# Altium integrated library lib_actives.IntLib: 19 symbols
Pins are listed as number, name and electrical type; pins without a type are passive.

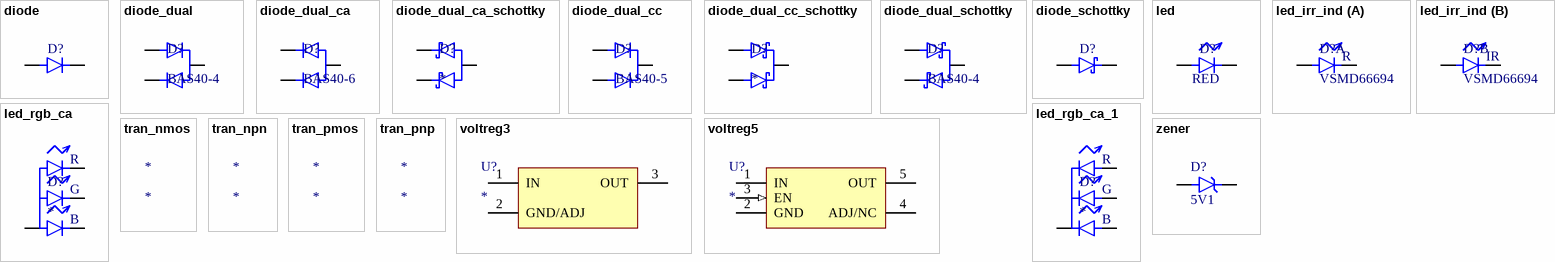
[diagram p0: symbols diode to zener]

## diode
designator D?  (value not drawn)
Diode
footprint CAPCP1005X06N (Chip Capacitor, 2-Leads, Body 1.00x0.50mm, IPC Medium Density); pin to pad A>1 C>2
footprint CAPCP1608X08N (Chip Capacitor, 2-Leads, Body 1.60x0.80mm, IPC Medium Density); pin to pad A>1 C>2
footprint CAPCP2012X11N (Chip Capacitor, 2-Leads, Body 2.00x1.25mm, IPC Medium Density); pin to pad A>1 C>2
footprint CAPCP3216X14N (Chip Capacitor, 2-Leads, Body 3.20x1.60mm, IPC Medium Density); pin to pad A>1 C>2
footprint SODFL160X65-2N_SOD523 (SODFL, 2-Leads, Body 0.80x1.60mm, IPC Medium Density)
footprint SODFL250X110-2N_SOD323 (SODFL, 2-Leads, Body 1.25x2.50mm, IPC Medium Density)
footprint SODFL250X110-2N_SOD323 (SODFL, 2-Leads, Body 1.25x2.50mm, IPC Medium Density)
footprint SOT23_SINGLE (SOT23, 3-Leads, Body 2.90x2.40mm, Pitch 0.90mm, IPC Medium Density)
pins: A, C

## diode_dual
designator D?, comment BAS40-4
Diode dual series
footprint SOT23_DUAL (SOT23, 3-Leads, Body 2.90x2.40mm, Pitch 0.90mm, IPC Medium Density)
pins: A, C1, C2

## diode_dual_ca
designator D?, comment BAS40-6
Diode Common Anode
footprint SOT23_CA (SOT23, 3-Leads, Body 2.90x2.40mm, Pitch 0.90mm, IPC Medium Density)
pins: A, C1, C2

## diode_dual_ca_schottky
designator D?
Schottky diode Common Anode
footprint SOT23_CA (SOT23, 3-Leads, Body 2.90x2.40mm, Pitch 0.90mm, IPC Medium Density)
pins: A, C1, C2

## diode_dual_cc
designator D?, comment BAS40-5
Diode Common Cathode
footprint SOT23_CC (SOT23, 3-Leads, Body 2.90x2.40mm, Pitch 0.90mm, IPC Medium Density)
pins: A1, A2, C

## diode_dual_cc_schottky
designator D?
Schottky diode Common Cathode
footprint SOT23_CC (SOT23, 3-Leads, Body 2.90x2.40mm, Pitch 0.90mm, IPC Medium Density)
pins: A1, A2, C

## diode_dual_schottky
designator D?, comment BAS40-4
Schottky diode dual series
footprint SOT23_DUAL (SOT23, 3-Leads, Body 2.90x2.40mm, Pitch 0.90mm, IPC Medium Density)
pins: A, C1, C2

## diode_schottky
designator D?  (value not drawn)
Shottky diode
footprint SODFL160X65-2N_SOD523 (SODFL, 2-Leads, Body 0.80x1.60mm, IPC Medium Density)
footprint SODFL250X110-2N_SOD323 (SODFL, 2-Leads, Body 1.25x2.50mm, IPC Medium Density)
footprint SODFL250X110-2N_SOD323 (SODFL, 2-Leads, Body 1.25x2.50mm, IPC Medium Density)
footprint SOT23_SINGLE (SOT23, 3-Leads, Body 2.90x2.40mm, Pitch 0.90mm, IPC Medium Density)
pins: A, C

## led
designator D?  value RED  (hidden comment: *)
LED
footprint CAPCP1005X06N (Chip Capacitor, 2-Leads, Body 1.00x0.50mm, IPC Medium Density); pin to pad A>1 C>2
footprint CAPCP1608X08N (Chip Capacitor, 2-Leads, Body 1.60x0.80mm, IPC Medium Density); pin to pad A>1 C>2
footprint CAPCP2012X11N (Chip Capacitor, 2-Leads, Body 2.00x1.25mm, IPC Medium Density); pin to pad A>1 C>2
footprint CAPCP3216X14N (Chip Capacitor, 2-Leads, Body 3.20x1.60mm, IPC Medium Density); pin to pad A>1 C>2
pins: A, C

## led_irr_ind
designator D?, comment VSMD66694
Dual Individual Infrared+red LED
footprint CAC-100P200X200-4N (Chip Array, Concave, 4-Leads, Pitch 1.00mm,  Body 2.00x2.00mm,  IPC Medium Density - VSMD66694)
part A pins: A1, C1
part B pins: A2, C2
part A text: R
part B text: IR

## led_rgb_ca
designator D?
RGB LED Common anode
footprint DFN55P100X70-4N (DFN, 4-Leads, Body 1.00x1.00mm, Pitch 0.55mm, IPC Medium Density)
pins: A, B, G, R

## led_rgb_ca_1
designator D?
RGB LED Common cathode
pins: B, C, G, R

## tran_nmos
designator *

## tran_npn
designator *

## tran_pmos
designator *

## tran_pnp
designator *

## voltreg3
designator U?
3pin voltage regulator
pins: 1 IN (power), 2 GND/ADJ (power), 3 OUT (power)

## voltreg5
designator U?
5pin voltage regulator
footprint SOT95P245X110-5N (SOT23, 5-Leads, Body 2.90x2.45mm, Pitch 0.95mm, IPC Medium Density)
pins: 1 IN (power), 2 GND (power), 3 EN (in), 4 ADJ/NC, 5 OUT (power)

## zener
designator D?, comment 5V1
Zener diode; Vz: 5V1
footprint SODFL160X65-2N_SOD523 (SODFL, 2-Leads, Body 0.80x1.60mm, IPC Medium Density)
footprint SODFL250X110-2N_SOD323 (SODFL, 2-Leads, Body 1.25x2.50mm, IPC Medium Density)
footprint SODFL370X135-2N_SOD123 (SODFL, 2-Leads, Body 1.55x3.70mm, IPC Medium Density)
footprint SOT23_SINGLE (SOT23, 3-Leads, Body 2.90x2.40mm, Pitch 0.90mm, IPC Medium Density)
pins: A, C